# EAGLE library part 100DP1 (library switch-e-switch)
SWITCH TOGGLE DPDT 5A 120V
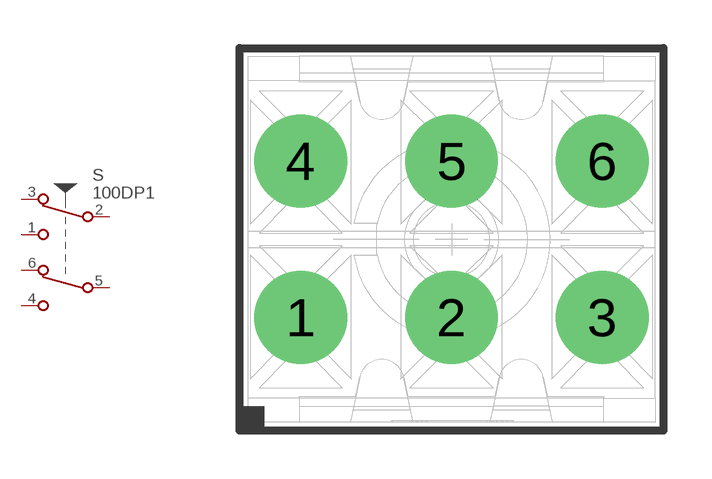
[diagram p15: symbol with the pads of 100DP1; footprint 100DP1]

Designator prefix S

## 100DP1  [100DP1]
1  A-NO  pas
2  A-COM  pas
3  A-NC  pas
4  B-NO  pas
5  B-COM  pas
6  B-NC  pas

## Footprint 100DP1 (pad centres in mm)
TOGGLE SWITCH
drill 1.93: 1 -4.699,-2.438; 2 0,-2.438; 3 4.699,-2.438; 4 -4.699,2.438; 5 0,2.438; 6 4.699,2.438